# Altium footprint library YaoPCB.PCBLIB: 415 footprints (part 26 of 26)
Each footprint in its own frame and in the unit in brackets; x right, y up, seen from the top. Pads: shape width x height; smd on the part's side, far side on the other; paste and mask are expansions set on the pad; w line width, h text height; cw(c..) or ccw(c..) is an arc to the next point about the centre after c.
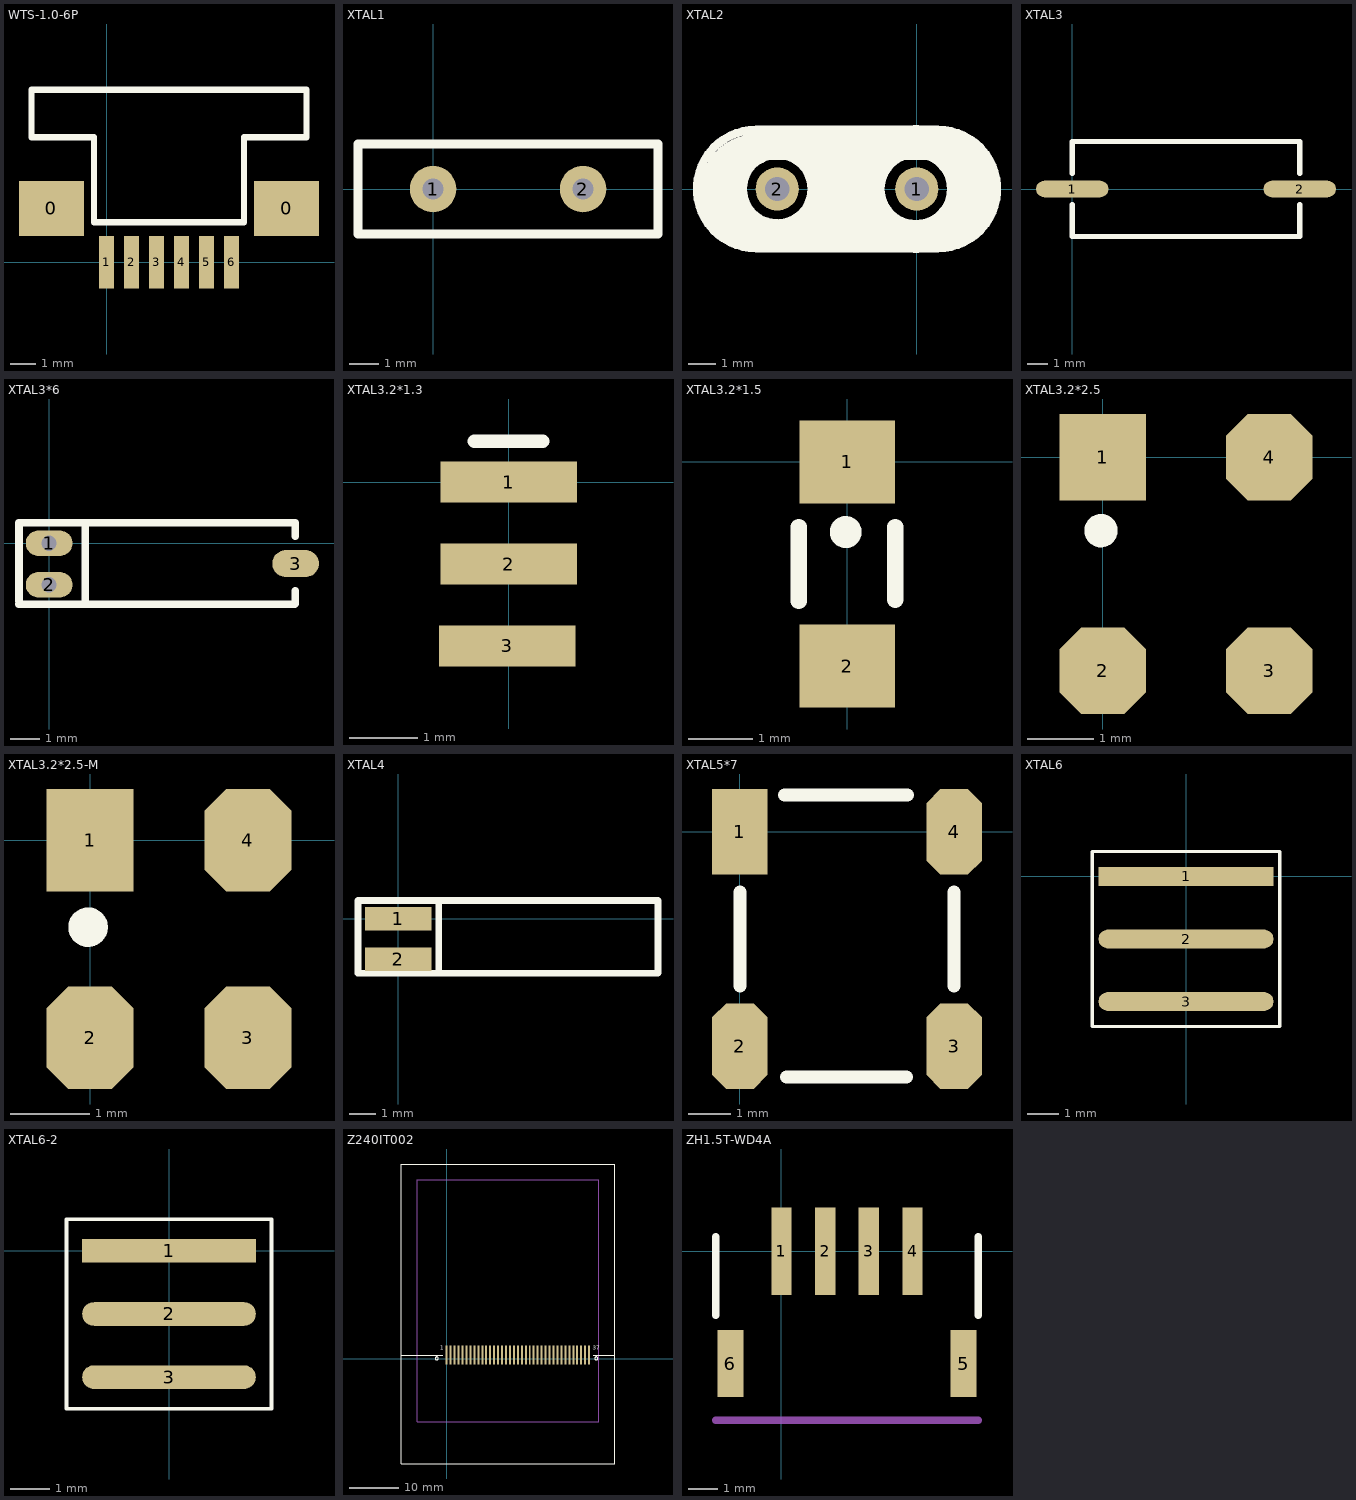
[diagram p25: the footprints below, top view; thin cyan lines are the x and y axes]

## WTS-1.0-6P [mm]
pads (8):
  rect 2.6x2.2 smd: 0(-2.2,2.15) 0(7.2,2.15)
  rect 0.6x2.1 smd: 1(0,0) 2(1,0) 3(2,0) 4(3,0) 5(4,0) 6(5,0)
TopOverlay:
  lines w0.254: -3,5 -0.5,5 -0.5,1.6 5.5,1.6 5.5,5 8,5 8,6.9 -3,6.9 -3,5

## XTAL1 [mil]
pads (2):
  round 62 hole 28: 1(0,0) 2(200,0)
TopOverlay:
  lines w12: -100,-60 300,-60 300,60 -100,60 -100,-60

## XTAL2 [mil]
pads (2):
  round 62 hole 35: 1(0,0) 2(-200,0)
TopOverlay:
  circle w47.24: c-1.26,0 r68.26
  circle w47.24: c-200,0 r67.01
  lines w12: -230,-85 cw(c-230,0) -230,85 30,85 cw(c30,0) 30,-85 -230,-85
  lines w39.37: -229,-64 34,-64 ; -229,61 34,61
  lines w43.31: -230,-59 cw(c-230,-1) -230,57 ; 33,-59 ccw(c33,-1) 33,57
  lines w50: -102,-59 -102,64

## XTAL3 [mm]
pads (2):
  oval 3.5x0.8 smd: 1(0,0) 2(11,0)
TopOverlay:
  lines w0.254: 0,-2.3 11,-2.3 ; 0,-2.286 0,-0.762 ; 0,0.762 0,2.3 11,2.3 11,0.762 ; 11,-2.286 11,-0.762

## XTAL3*6 [mil]
pads (3):
  oval 62x34 hole 20: 1(0,0) 2(0,-55.12)
  oval 62x36 smd: 3(327,-27)
TopOverlay:
  lines w10: -40,-81 51,-81 326,-81 ; -40,-77 -40,27 48,27 ; 48,-78 48,27 ; 326.43,-80.57 326.43,-62.99 ; 326.43,9.2 326.43,26.77 ; 326.43,27 48,27

## XTAL3.2*1.3 [mm]
pads (3):
  rect 2x0.6 smd: 1(0,0)
  rect 2x0.6 smd mask+0.102: 2(0,-1.2) 3(-0.02,-2.4)
TopOverlay:
  lines w0.203: -0.5,0.6 0.5,0.6

## XTAL3.2*1.5 [mm]
pads (2):
  rect 1.5x1.3 smd: 1(0,0)
  rect 1.5x1.3 smd mask+0.102: 2(0,-3.2)
TopOverlay:
  circle w0.25: c-0.025,-1.1 r0.125
  lines w0.254: -0.76,-2.18 -0.76,-1.02 ; 0.75,-2.16 0.75,-1.02

## XTAL3.2*2.5 [mm]
pads (4):
  rect 1.3x1.3 smd: 1(0,0)
  oct 1.3x1.3 smd: 2(0,-3.2) 3(2.5,-3.2) 4(2.5,0)
TopOverlay:
  circle w0.25: c-0.025,-1.1 r0.125

## XTAL3.2*2.5-M [mm]
pads (4):
  rect 1.1x1.3 smd: 1(0,0)
  oct 1.1x1.3 smd: 2(0,-2.5) 3(2,-2.5) 4(2,0)
TopOverlay:
  circle w0.25: c-0.025,-1.1 r0.125

## XTAL4 [mm]
pads (2):
  rect 2.5x0.9 smd: 1(0,0) 2(0,-1.524)
TopOverlay:
  lines w0.254: -1.521,-2.057 0.79,-2.057 9.775,-2.057 ; -1.521,-1.956 -1.521,0.686 0.714,0.686 9.786,0.686 9.786,-2.046 ; 1.524,-1.981 1.524,0.686

## XTAL5*7 [mm]
pads (4):
  rect 1.3x2 smd: 1(0,0)
  oct 1.3x2 smd: 2(0,-5) 3(5,-5) 4(5,0)
TopOverlay:
  lines w0.305: 0,-3.6 0,-1.4 ; 1.041,0.864 3.912,0.864 ; 1.084,-5.715 3.886,-5.715 ; 5,-3.6 5,-1.4

## XTAL6 [mm]
pads (3):
  rect 5.6x0.6 smd: 1(0,0)
  oval 5.6x0.6 smd: 2(0,-2) 3(0,-4)
TopOverlay:
  lines w0.1: -3,-4.8 -3,0.8 3,0.8 3,-4.8 -3,-4.8

## XTAL6-2 [mm]
pads (3):
  rect 4.4x0.6 smd: 1(0,0)
  oval 4.4x0.6 smd: 2(0,-1.6) 3(0,-3.2)
TopOverlay:
  lines w0.1: -2.6,-4 -2.6,0.8 2.6,0.8 2.6,-4 -2.6,-4

## Z240IT002 [mm]
pads (37):
  rect 0.4x3.8 smd: 1(0,0.7) 2(0.8,0.7) 3(1.6,0.7) 4(2.4,0.7) 5(3.2,0.7) 6(4,0.7) 7(4.8,0.7) 8(5.6,0.7) 9(6.4,0.7) 10(7.2,0.7) 11(8,0.7) 12(8.8,0.7) 13(9.6,0.7) 14(10.4,0.7) 15(11.2,0.7) 16(12,0.7) 17(12.8,0.7) 18(13.6,0.7) 19(14.4,0.7) 20(15.2,0.7) 21(16,0.7) 22(16.8,0.7) 23(17.6,0.7) 24(18.4,0.7) 25(19.2,0.7) 26(20,0.7) 27(20.8,0.7) 28(21.6,0.7) 29(22.4,0.7) 30(23.2,0.7) 31(24,0.7) 32(24.8,0.7) 33(25.6,0.7) 34(26.4,0.7) 35(27.2,0.7) 36(28,0.7) 37(28.8,0.7)
TopOverlay:
  circle w0.2: c-2,0.04 r0.3
  circle w0.2: c30.241,0.04 r0.3
  lines w0.2: -9.159,0.7 -0.775,0.7 ; 29.675,0.7 33.961,0.7 ; -9.159,-21.312 -9.159,39.348 33.961,39.348 33.961,-21.312 -9.159,-21.312
  text "1" at -1.3,1.825 h0.8
  text "37" at 29.55,1.75 h0.8
Mechanical1:
  lines w0.025: -5.959,-12.812 -5.959,36.148 30.761,36.148 30.761,-12.812 -5.959,-12.812

## ZH1.5T-WD4A [mm]
pads (6):
  rect 0.7x3 smd: 1(0,0) 2(1.5,0) 3(3,0) 4(4.5,0)
  rect 0.9x2.3 smd: 5(6.25,-3.85) 6(-1.75,-3.85)
TopOverlay:
  lines w0.254: -2.25,-2.2 -2.25,0.5 ; 6.75,-2.2 6.75,0.5
Mechanical15:
  lines w0.254: -2.25,-5.8 6.75,-5.8